# Altium footprint library xilinx-xc9.PCBLIB: 2 footprints
Each footprint in its own frame and in the unit in brackets; x right, y up, seen from the top. Pads: shape width x height; smd on the part's side, far side on the other; paste and mask are expansions set on the pad; w line width, h text height; cw(c..) or ccw(c..) is an arc to the next point about the centre after c.
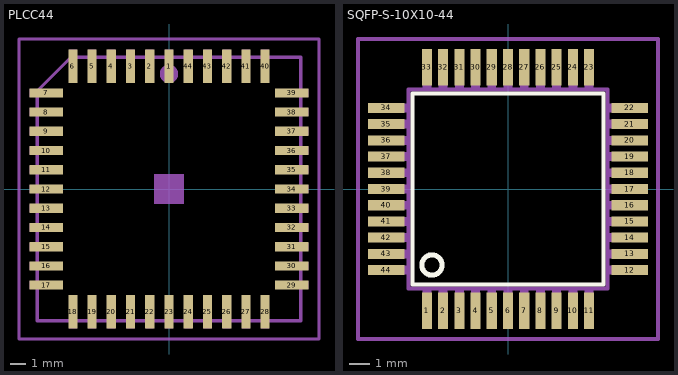
[diagram p0: the footprints below, top view; thin cyan lines are the x and y axes]

## PLCC44 [mm]
pads (44):
  rect 0.6x2.2 smd: 1(0,8.1) 2(-1.27,8.1) 3(-2.54,8.1) 4(-3.81,8.1) 5(-5.08,8.1) 6(-6.35,8.1) 18(-6.35,-8.1) 19(-5.08,-8.1) 20(-3.81,-8.1) 21(-2.54,-8.1) 22(-1.27,-8.1) 23(0,-8.1) 24(1.27,-8.1) 25(2.54,-8.1) 26(3.81,-8.1) 27(5.08,-8.1) 28(6.35,-8.1) 40(6.35,8.1) 41(5.08,8.1) 42(3.81,8.1) 43(2.54,8.1) 44(1.27,8.1)
  rect 2.2x0.6 smd: 7(-8.1,6.35) 8(-8.1,5.08) 9(-8.1,3.81) 10(-8.1,2.54) 11(-8.1,1.27) 12(-8.1,0) 13(-8.1,-1.27) 14(-8.1,-2.54) 15(-8.1,-3.81) 16(-8.1,-5.08) 17(-8.1,-6.35) 29(8.1,-6.35) 30(8.1,-5.08) 31(8.1,-3.81) 32(8.1,-2.54) 33(8.1,-1.27) 34(8.1,0) 35(8.1,1.27) 36(8.1,2.54) 37(8.1,3.81) 38(8.1,5.08) 39(8.1,6.35)
Mechanical 6:
  rectangle: -1,-1 1,1
Mechanical 16:
  circle w0.61: c0,7.6 r0.3
  rectangle: -0.26,8.75 0.26,9.2
  rectangle: -1.53,8.75 -1.01,9.2
  rectangle: -2.8,8.75 -2.28,9.2
  rectangle: -4.07,8.75 -3.55,9.2
  rectangle: -5.34,8.75 -4.82,9.2
  rectangle: -6.61,8.75 -6.09,9.2
  rectangle: -9.2,6.09 -8.75,6.61
  rectangle: -9.2,4.82 -8.75,5.34
  rectangle: -9.2,3.55 -8.75,4.07
  rectangle: -9.2,2.28 -8.75,2.8
  rectangle: -9.2,1.01 -8.75,1.53
  rectangle: -9.2,-0.26 -8.75,0.26
  rectangle: -9.2,-1.53 -8.75,-1.01
  rectangle: -9.2,-2.8 -8.75,-2.28
  rectangle: -9.2,-4.07 -8.75,-3.55
  rectangle: -9.2,-5.34 -8.75,-4.82
  rectangle: -9.2,-6.61 -8.75,-6.09
  rectangle: -6.61,-9.2 -6.09,-8.75
  rectangle: -5.34,-9.2 -4.82,-8.75
  rectangle: -4.07,-9.2 -3.55,-8.75
  rectangle: -2.8,-9.2 -2.28,-8.75
  rectangle: -1.53,-9.2 -1.01,-8.75
  rectangle: -0.26,-9.2 0.26,-8.75
  rectangle: 1.01,-9.2 1.53,-8.75
  rectangle: 2.28,-9.2 2.8,-8.75
  rectangle: 3.55,-9.2 4.07,-8.75
  rectangle: 4.82,-9.2 5.34,-8.75
  rectangle: 6.09,-9.2 6.61,-8.75
  rectangle: 8.75,-6.61 9.2,-6.09
  rectangle: 8.75,-5.34 9.2,-4.82
  rectangle: 8.75,-4.07 9.2,-3.55
  rectangle: 8.75,-2.8 9.2,-2.28
  rectangle: 8.75,-1.53 9.2,-1.01
  rectangle: 8.75,-0.26 9.2,0.26
  rectangle: 8.75,1.01 9.2,1.53
  rectangle: 8.75,2.28 9.2,2.8
  rectangle: 8.75,3.55 9.2,4.07
  rectangle: 8.75,4.82 9.2,5.34
  rectangle: 8.75,6.09 9.2,6.61
  rectangle: 6.09,8.75 6.61,9.2
  rectangle: 4.82,8.75 5.34,9.2
  rectangle: 3.55,8.75 4.07,9.2
  rectangle: 2.28,8.75 2.8,9.2
  rectangle: 1.01,8.75 1.53,9.2
  lines w0.203: -8.7,-8.7 -8.7,6.465 -6.465,8.7 8.7,8.7 8.7,-8.7 -8.7,-8.7
  text "IPC PLCC-44 Suare" at -5.96,4.27 h0.94
Mechanical 27:
  lines w0.2: -9.903,-9.903 9.903,-9.903 9.903,9.903 -9.903,9.903 -9.903,-9.903

## SQFP-S-10X10-44 [mm]
pads (44):
  rect 0.5x1.8 smd: 1(-4,-6) 2(-3.2,-6) 3(-2.4,-6) 4(-1.6,-6) 5(-0.8,-6) 6(0,-6) 7(0.8,-6) 8(1.6,-6) 9(2.4,-6) 10(3.2,-6) 11(4,-6) 23(4,6) 24(3.2,6) 25(2.4,6) 26(1.6,6) 27(0.8,6) 28(0,6) 29(-0.8,6) 30(-1.6,6) 31(-2.4,6) 32(-3.2,6) 33(-4,6)
  rect 1.8x0.5 smd: 12(6,-4) 13(6,-3.2) 14(6,-2.4) 15(6,-1.6) 16(6,-0.8) 17(6,0) 18(6,0.8) 19(6,1.6) 20(6,2.4) 21(6,3.2) 22(6,4) 34(-6,4) 35(-6,3.2) 36(-6,2.4) 37(-6,1.6) 38(-6,0.8) 39(-6,0) 40(-6,-0.8) 41(-6,-1.6) 42(-6,-2.4) 43(-6,-3.2) 44(-6,-4)
Top Overlay:
  circle w0.254: c-3.75,-3.75 r0.5
  lines w0.203: -4.72,-4.71 4.71,-4.71 4.71,4.71 -4.72,4.71 -4.72,-4.71
Mechanical 16:
  rectangle: -4.22,-6.72 -3.78,-4.95
  rectangle: -3.42,-6.72 -2.98,-4.95
  rectangle: -2.62,-6.72 -2.18,-4.95
  rectangle: -1.82,-6.72 -1.38,-4.95
  rectangle: -1.02,-6.72 -0.58,-4.95
  rectangle: -0.22,-6.72 0.22,-4.95
  rectangle: 0.58,-6.72 1.02,-4.95
  rectangle: 1.38,-6.72 1.82,-4.95
  rectangle: 2.18,-6.72 2.62,-4.95
  rectangle: 2.98,-6.72 3.42,-4.95
  rectangle: 3.78,-6.72 4.22,-4.95
  rectangle: 4.95,-4.22 6.72,-3.78
  rectangle: 4.95,-3.42 6.72,-2.98
  rectangle: 4.95,-2.62 6.72,-2.18
  rectangle: 4.95,-1.82 6.72,-1.38
  rectangle: 4.95,-1.02 6.72,-0.58
  rectangle: 4.95,-0.22 6.72,0.22
  rectangle: 4.95,0.58 6.72,1.02
  rectangle: 4.95,1.38 6.72,1.82
  rectangle: 4.95,2.18 6.72,2.62
  rectangle: 4.95,2.98 6.72,3.42
  rectangle: 4.95,3.78 6.72,4.22
  rectangle: 3.78,4.95 4.22,6.72
  rectangle: 2.98,4.95 3.42,6.72
  rectangle: 2.18,4.95 2.62,6.72
  rectangle: 1.38,4.95 1.82,6.72
  rectangle: 0.58,4.95 1.02,6.72
  rectangle: -0.22,4.95 0.22,6.72
  rectangle: -1.02,4.95 -0.58,6.72
  rectangle: -1.82,4.95 -1.38,6.72
  rectangle: -2.62,4.95 -2.18,6.72
  rectangle: -3.42,4.95 -2.98,6.72
  rectangle: -4.22,4.95 -3.78,6.72
  rectangle: -6.72,3.78 -4.95,4.22
  rectangle: -6.72,2.98 -4.95,3.42
  rectangle: -6.72,2.18 -4.95,2.62
  rectangle: -6.72,1.38 -4.95,1.82
  rectangle: -6.72,0.58 -4.95,1.02
  rectangle: -6.72,-0.22 -4.95,0.22
  rectangle: -6.72,-1.02 -4.95,-0.58
  rectangle: -6.72,-1.82 -4.95,-1.38
  rectangle: -6.72,-2.62 -4.95,-2.18
  rectangle: -6.72,-3.42 -4.95,-2.98
  rectangle: -6.72,-4.22 -4.95,-3.78
  lines w0.203: -4.91,-4.91 4.91,-4.91 4.91,4.91 -4.91,4.91 -4.91,-4.91
Mechanical 27:
  lines w0.2: -7.4,-7.4 -7.4,7.4 7.4,7.4 7.4,-7.4 -7.4,-7.4